# Altium schematic symbol library RC0201FR-071ML.SchLib: 1 symbol
Pins are listed as number, name and electrical type; pins without a type are passive.

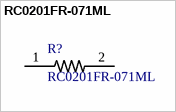
[diagram p0: symbol RC0201FR-071ML]

## RC0201FR-071ML
designator R?
/ Surface Mount Chip Resistor, Thick Film, RC Series, 1 Mohm, 50 mW, 1%, 0201 [0603 Metric] /; MF: Yageo; Package: 0201 Yageo; Price: None; MP: RC0201FR-071ML; Availability: Unavailable; SnapEDA_Link: https://www.snapeda.com/parts/RC0201FR-071ML/Yageo/view-part/?ref=snap; Value: *
footprint *RESC0603X26N
pins: 1, 2